# EAGLE library part ERNI-214788 (library 1A-meinLib)
Power Taps for Backplanes, 6 pin with Scew Mount Terminals, Stromversorgungsanschluß, M4, M3, Typ 214788, ERNI
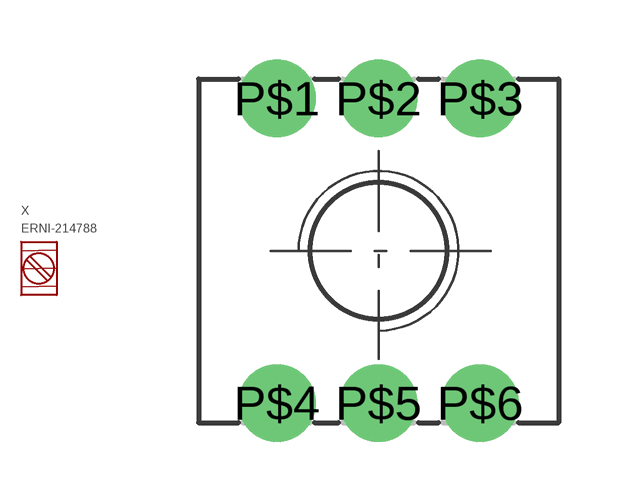
[diagram p248: symbol with the pads of ERNI-214788; footprint ERNI-214788]

Designator prefix X

## ERNI-214788  [ERNI-214788]
P$1  P$1  pas
P$2  P$2  pas
P$3  P$3  pas
P$4  P$4  pas
P$5  P$5  pas
P$6  P$6  pas

## Footprint ERNI-214788 (pad centres in mm)
Power Taps for Backplanes, 6 pin with Scew Mount Terminals, Stromversorgungsanschlüße M4, Typ 214788, ERNI
drill 1 pad 1.93 round: P$1 -2.54,3.81; P$2 0,3.81; P$3 2.54,3.81; P$4 -2.54,-3.81; P$5 0,-3.81; P$6 2.54,-3.81